# Altium footprint library MC74VHC1G.PcbLib: 1 footprints
Each footprint in its own frame and in the unit in brackets; x right, y up, seen from the top. Pads: shape width x height; smd on the part's side, far side on the other; paste and mask are expansions set on the pad; w line width, h text height; cw(c..) or ccw(c..) is an arc to the next point about the centre after c.
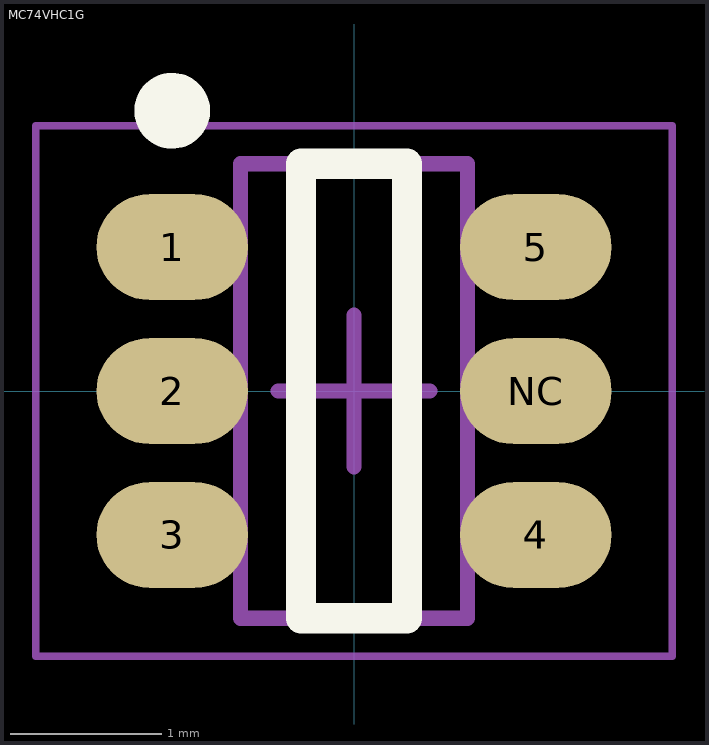
[diagram p0: the footprint, top view; thin cyan lines are the x and y axes]

## MC74VHC1G [mm] "TSOP, 6-Leads, Body 3.00x1.50mm, Pitch 0.95mm, IPC Medium Density"
height 1.1
pads (6):
  oval 1x0.7 smd: 1(-1.2,0.95) 2(-1.2,0) 3(-1.2,-0.95) 4(1.2,-0.95) 5(1.2,0.95) NC(1.2,0)
Top Overlay:
  circle w0.25: c-1.2,1.85 r0.125
  lines w0.2: -0.35,-1.5 0.35,-1.5 0.35,1.5 -0.35,1.5 -0.35,-1.5
Mechanical 13:
  lines w0.1: -0.75,-1.5 0.75,-1.5 0.75,1.5 -0.75,1.5 -0.75,-1.5
Mechanical 15:
  lines w0.05: -2.1,-1.75 2.1,-1.75 2.1,1.75 -2.1,1.75 -2.1,-1.75
  lines w0.1: -0.5,0 0.5,0 ; 0,-0.5 0,0.5
3D body: height 1.1, standoff 0.01, extent -0.75,-1.5 0.75,1.5